# EAGLE library part MBED-BOARD (library mbed-HDK-Board&Enclosure)
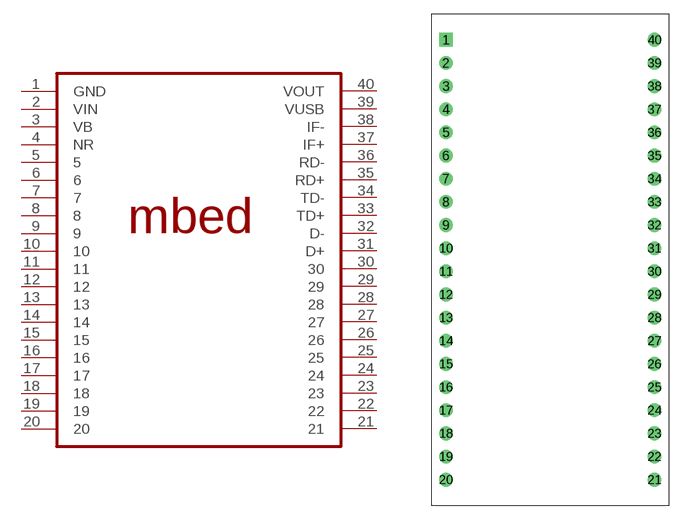
[diagram p1: symbol with the pads of MBED-BOARD; footprint MBED-BOARD]

Designator prefix BRD

## MBED-BOARD  [MBED-BOARD]
1  GND
2  VIN
3  VB
4  NR
5  5
6  6
7  7
8  8
9  9
10  10
11  11
12  12
13  13
14  14
15  15
16  16
17  17
18  18
19  19
20  20
21  21
22  22
23  23
24  24
25  25
26  26
27  27
28  28
29  29
30  30
31  D+
32  D-
33  TD+
34  TD-
35  RD+
36  RD-
37  IF+
38  IF-
39  VUSB
40  VOUT

## Footprint MBED-BOARD (pad centres in mm)
drill 1 square: 1 -11.43,24.13
drill 1: 2 -11.43,21.59; 3 -11.43,19.05; 4 -11.43,16.51; 5 -11.43,13.97; 6 -11.43,11.43; 7 -11.43,8.89; 8 -11.43,6.35; 9 -11.43,3.81; 10 -11.43,1.27; 11 -11.43,-1.27; 12 -11.43,-3.81; 13 -11.43,-6.35; 14 -11.43,-8.89; 15 -11.43,-11.43; 16 -11.43,-13.97; 17 -11.43,-16.51; 18 -11.43,-19.05; 19 -11.43,-21.59; 20 -11.43,-24.13; 21 11.43,-24.13; 22 11.43,-21.59; 23 11.43,-19.05; 24 11.43,-16.51; 25 11.43,-13.97; 26 11.43,-11.43; 27 11.43,-8.89; 28 11.43,-6.35; 29 11.43,-3.81; 30 11.43,-1.27; 31 11.43,1.27; 32 11.43,3.81; 33 11.43,6.35; 34 11.43,8.89; 35 11.43,11.43; 36 11.43,13.97; 37 11.43,16.51; 38 11.43,19.05; 39 11.43,21.59; 40 11.43,24.13